# Altium footprint library JACK35MMRAPC4BH3.PcbLib: 1 footprints
Each footprint in its own frame and in the unit in brackets; x right, y up, seen from the top. Pads: shape width x height; smd on the part's side, far side on the other; paste and mask are expansions set on the pad; w line width, h text height; cw(c..) or ccw(c..) is an arc to the next point about the centre after c.
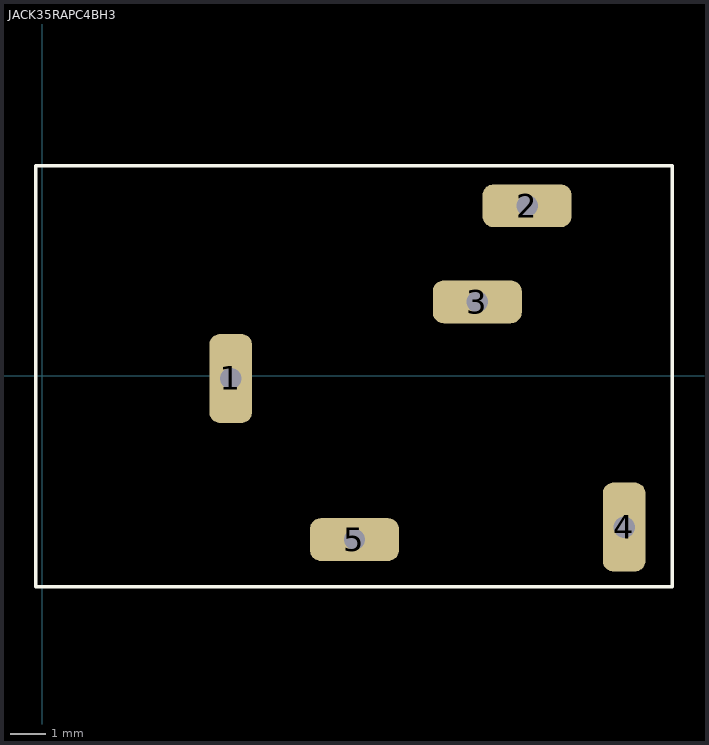
[diagram p0: the footprint, top view; thin cyan lines are the x and y axes]

## JACK35RAPC4BH3 [mm] "CONN JACK STEREO 3.5MM"
pads (5):
  rrect50% 1.2x2.5 hole 0.6 square: 1(5.3,-0.075) 4(16.35,-4.25)
  rrect50% 2.5x1.2 hole 0.6 square: 2(13.625,4.775) 3(12.225,2.075) 5(8.775,-4.6)
Top Overlay:
  lines w0.1: -0.175,-5.925 -0.175,5.9 17.7,5.9 17.7,-5.925 -0.175,-5.925
3D body "CUI_SJ1-3514.step": height 6.5, standoff -2.5, extent 0,-5.75 17.5,5.75